# Altium schematic symbol library TPSV108M006R0050.SchLib: 1 symbol
Pins are listed as number, name and electrical type; pins without a type are passive.

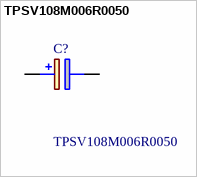
[diagram p0: symbol TPSV108M006R0050]

## TPSV108M006R0050
designator C?
AVX 1000uF 6.3 V dc Tantalum Capacitor Electrolytic Solid 2924 Series; Manufacturer_Name: Kyocera AVX; Geometry.Height: 3.75mm; Mouser Part Number: 581-TPSV108M006R0050; Mouser Price/Stock: https://www.mouser.co.uk/ProductDetail/AVX/TPSV108M006R0050/?qs=WFeDzVsYEriRBJ8v%2FpmOCw%3D%3D; Manufacturer_Part_Number: TPSV108M006R0050; Datasheet Link: https://www.arrow.com/en/products/tpsv108m006r0050/avx
footprint CAPPM7362X375N
pins: 1 +, 2 -